# Altium schematic symbol library PIE_TEST.SchLib: 1 symbol
Pins are listed as number, name and electrical type; pins without a type are passive.

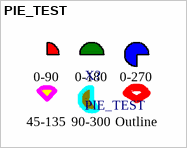
[diagram p0: symbol PIE_TEST]

## PIE_TEST
designator X?
Test pie shapes
text: 0-90; 0-180; 0-270; 45-135; 90-300; Outline